# EAGLE library part MCP9808 (library Eagle_CAD_parts)
Features • Accuracy: ------ ±0.25 (typical) from –40°C to +125°C ------ ±0.5°C (maximum) from –20°C to 100°C ------ ±1°C (maximum) from –40°C to +125°C ------ ±0.0625°C or ±1 LSb (typical) repeatability • User-Selectable Measurement Resolution: ------ +0.5°C, +0.25°C, +0.125°C, +0.0625°C • User-Programmable Temperature Limits: ------ Temperature Window Limit ------ Critical Temperature Limit • User-Programmable Temperature Alert Output • Operating Voltage Range: 2.7V-5.5V • Operating Current: 200 uA (typical) • Shutdown Current: 0.1uA (typical) • 2-wire Interface: I 2 C/SMBus Compatible • Available Packages: 2x3 DFN-8, MSOP-8 Typical Applications • General Purpose • Industrial Applications • Industrial Freezers and Refrigerators • Food Processing • Personal Computers and Servers • PC Peripherals • Consumer Electronics • Handheld/Portable Devices
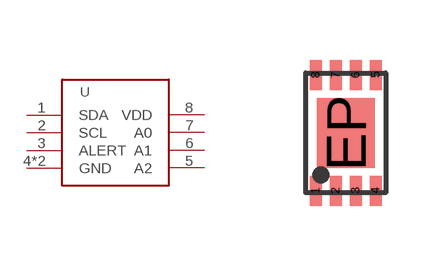
[diagram p53: symbol with the pads of 8-DFN-2X3; footprint 8-DFN-2X3]

Designator prefix U

## MCP9808_8-DFN (ACCURACY: 0.25ºC; DIGIKEY_PART_NUMBER: MCP9808T-E/MCCT-ND; MANUFACTURER_PART_NUMBER: MCP9808T-E/MC; RESOLUTION: 0.0625ºC - 0.5ºC; VDD: 2.7V - 5.5V)  [8-DFN-2X3]
1  SDA
2  SCL
3  ALERT
4  GND
5  A2
6  A1
7  A0
8  VDD
EP  GND

## Footprint 8-DFN-2X3 (pad centres in mm)
smd 0.3 x 0.75: 1 -0.75,-1.45; 2 -0.25,-1.45; 3 0.25,-1.45; 4 0.75,-1.45; 5 0.75,1.45; 6 0.25,1.45; 7 -0.25,1.45; 8 -0.75,1.45
smd 1.45 x 1.75: EP 0,0